# EAGLE library part SN65HVD3* (library bschulz)
SN65HVD3x - Full Duplex RS-485 Tranciver Characteristics: VCC: 3~3.6V Operating Temperature: -40°C to 85°C Signaling Rate: 1, 5, 26 Mbps (depending on model) Digikey: 296-31719-1-ND (SN65HVD30) <https://www.digikey.com/product-detail/en/texas-instruments/SN65HVD3082EDR/296-31719-1-ND/3505195> 296-19626-1-ND (SN65HVD31) <https://www.digikey.com/product-detail/en/texas-instruments/SN65HVD31DR/296-19626-1-ND/1016500> 296-19627-1-ND (SN65HVD32) <https://www.digikey.com/product-detail/en/texas-instruments/SN65HVD32DR/296-19627-1-ND/1016501>
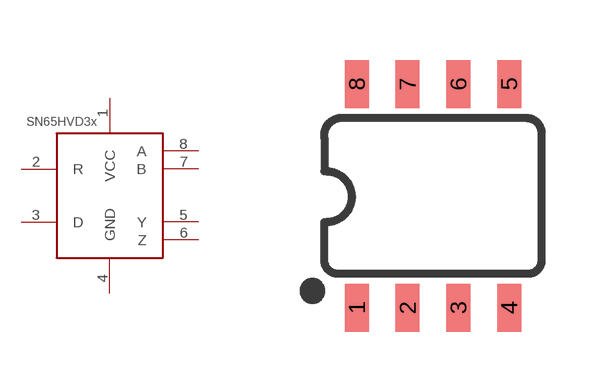
[diagram p28: symbol with the pads of SO08; footprint SO08]

Designator prefix -

## SN65HVD3 (MF: TI), SN65HVD30 (DIGIKEY: 296-19625-1-ND; MF: TI; MPN: SN65HVD30DR), SN65HVD31 (DIGIKEY: 296-19626-1-ND; MF: TI; MPN: SN65HVD31DR), SN65HVD32 (DIGIKEY: 296-19627-1-ND; MF: TI; MPN: SN65HVD32DR)  [SO08]
1  VCC
2  R
3  D
4  GND
5  Y
6  Z
7  B
8  A

## Footprint SO08 (pad centres in mm)
SOIC, 0.15 inch width
smd 0.6 x 1.2: 1 -1.905,-2.8; 2 -0.635,-2.8; 3 0.635,-2.8; 4 1.905,-2.8; 5 1.905,2.8; 6 0.635,2.8; 7 -0.635,2.8; 8 -1.905,2.8